# EAGLE library part INA226 (library X893)
Datasheet <http://www.ti.com/lit/ds/symlink/ina226.pdf>
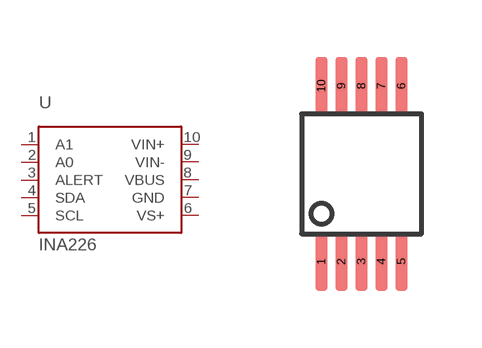
[diagram p215: symbol with the pads of VSSOP-10; footprint VSSOP-10]

Designator prefix U

## INA226  [VSSOP-10]
1  A1
2  A0
3  ALERT
4  SDA  oc
5  SCL  oc
6  VS+  pwr
7  GND  pwr
8  VBUS  pas
9  VIN-  pas
10  VIN+  pas

## Footprint VSSOP-10 (pad centres in mm)
smd 0.3 x 1.45: 1 -1,-2.2; 2 -0.5,-2.2; 3 0,-2.2; 4 0.5,-2.2; 5 1,-2.2; 6 1,2.2; 7 0.5,2.2; 8 0,2.2; 9 -0.5,2.2; 10 -1,2.2